# Altium schematic symbol library SCH - MCU - STM32 - ST MICROELECTRONICS STM32WBA54KEUX UFQFPN32.SchLib: 1 symbol
Pins are listed as number, name and electrical type; pins without a type are passive.

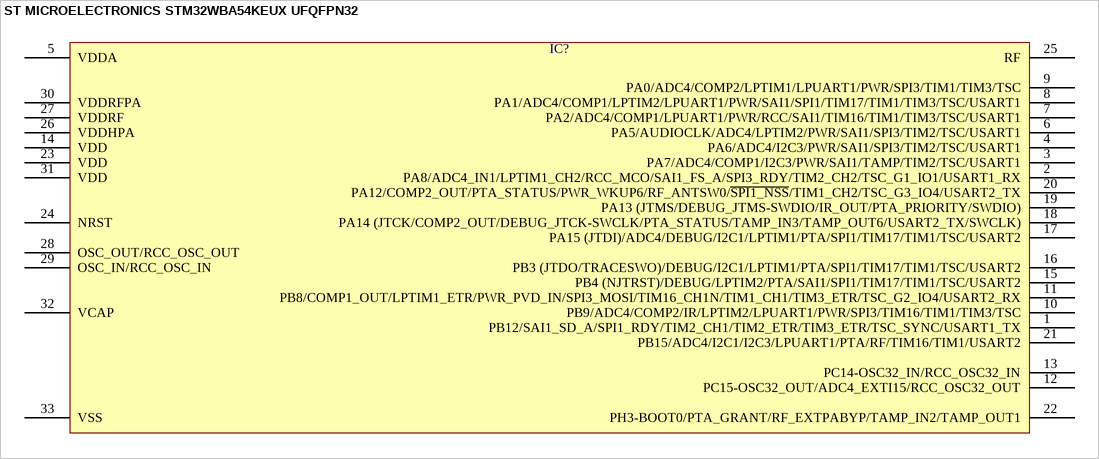
[diagram p0: symbol ST MICROELECTRONICS STM32WBA54KEUX UFQFPN32]

## ST MICROELECTRONICS STM32WBA54KEUX UFQFPN32
designator IC?  (value not drawn)
pins: 1 PB12/SAI1_SD_A/SPI1_RDY/TIM2_CH1/TIM2_ETR/TIM3_ETR/TSC_SYNC/USART1_TX, 2 PA8/ADC4_IN1/LPTIM1_CH2/RCC_MCO/SAI1_FS_A/SPI3_RDY/TIM2_CH2/TSC_G1_IO1/USART1_RX, 3 PA7/ADC4/COMP1/I2C3/PWR/SAI1/TAMP/TIM2/TSC/USART1, 4 PA6/ADC4/I2C3/PWR/SAI1/SPI3/TIM2/TSC/USART1, 5 VDDA, 6 PA5/AUDIOCLK/ADC4/LPTIM2/PWR/SAI1/SPI3/TIM2/TSC/USART1, 7 PA2/ADC4/COMP1/LPUART1/PWR/RCC/SAI1/TIM16/TIM1/TIM3/TSC/USART1, 8 PA1/ADC4/COMP1/LPTIM2/LPUART1/PWR/SAI1/SPI1/TIM17/TIM1/TIM3/TSC/USART1, 9 PA0/ADC4/COMP2/LPTIM1/LPUART1/PWR/SPI3/TIM1/TIM3/TSC, 10 PB9/ADC4/COMP2/IR/LPTIM2/LPUART1/PWR/SPI3/TIM16/TIM1/TIM3/TSC, 11 PB8/COMP1_OUT/LPTIM1_ETR/PWR_PVD_IN/SPI3_MOSI/TIM16_CH1N/TIM1_CH1/TIM3_ETR/TSC_G2_IO4/USART2_RX, 12 PC15-OSC32_OUT/ADC4_EXTI15/RCC_OSC32_OUT, 13 PC14-OSC32_IN/RCC_OSC32_IN, 14 VDD, 15 PB4 (NJTRST)/DEBUG/LPTIM2/PTA/SAI1/SPI1/TIM17/TIM1/TSC/USART2, 16 PB3 (JTDO/TRACESWO)/DEBUG/I2C1/LPTIM1/PTA/SPI1/TIM17/TIM1/TSC/USART2, 17 PA15 (JTDI)/ADC4/DEBUG/I2C1/LPTIM1/PTA/SPI1/TIM17/TIM1/TSC/USART2, 18 PA14 (JTCK/COMP2_OUT/DEBUG_JTCK-SWCLK/PTA_STATUS/TAMP_IN3/TAMP_OUT6/USART2_TX/SWCLK), 19 PA13 (JTMS/DEBUG_JTMS-SWDIO/IR_OUT/PTA_PRIORITY/SWDIO), 20 PA12/COMP2_OUT/PTA_STATUS/PWR_WKUP6/RF_ANTSW0/~{SPI1_NSS}/TIM1_CH2/TSC_G3_IO4/USART2_TX, 21 PB15/ADC4/I2C1/I2C3/LPUART1/PTA/RF/TIM16/TIM1/USART2, 22 PH3-BOOT0/PTA_GRANT/RF_EXTPABYP/TAMP_IN2/TAMP_OUT1, 23 VDD, 24 NRST, 25 RF, 26 VDDHPA, 27 VDDRF, 28 OSC_OUT/RCC_OSC_OUT, 29 OSC_IN/RCC_OSC_IN, 30 VDDRFPA, 31 VDD, 32 VCAP, 33 VSS